# Altium schematic symbol library NXP_Sch.SchLib: 1 symbol
Pins are listed as number, name and electrical type; pins without a type are passive.

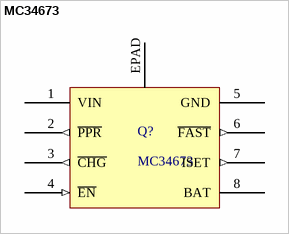
[diagram p0: symbol MC34673]

## MC34673
designator Q?
1.2A Single-Cell Li-Ion/Li-Polymer Battery Charger
pins: 1 VIN (power), 2 ~{PPR} (out), 3 ~{CHG} (out), 4 ~{EN} (in), 5 GND (power), 6 ~{FAST} (out), 7 ISET (out), 8 BAT (power), EPAD (power)